# Altium schematic symbol library STM32.SchLib: 15 symbols
Pins are listed as number, name and electrical type; pins without a type are passive.

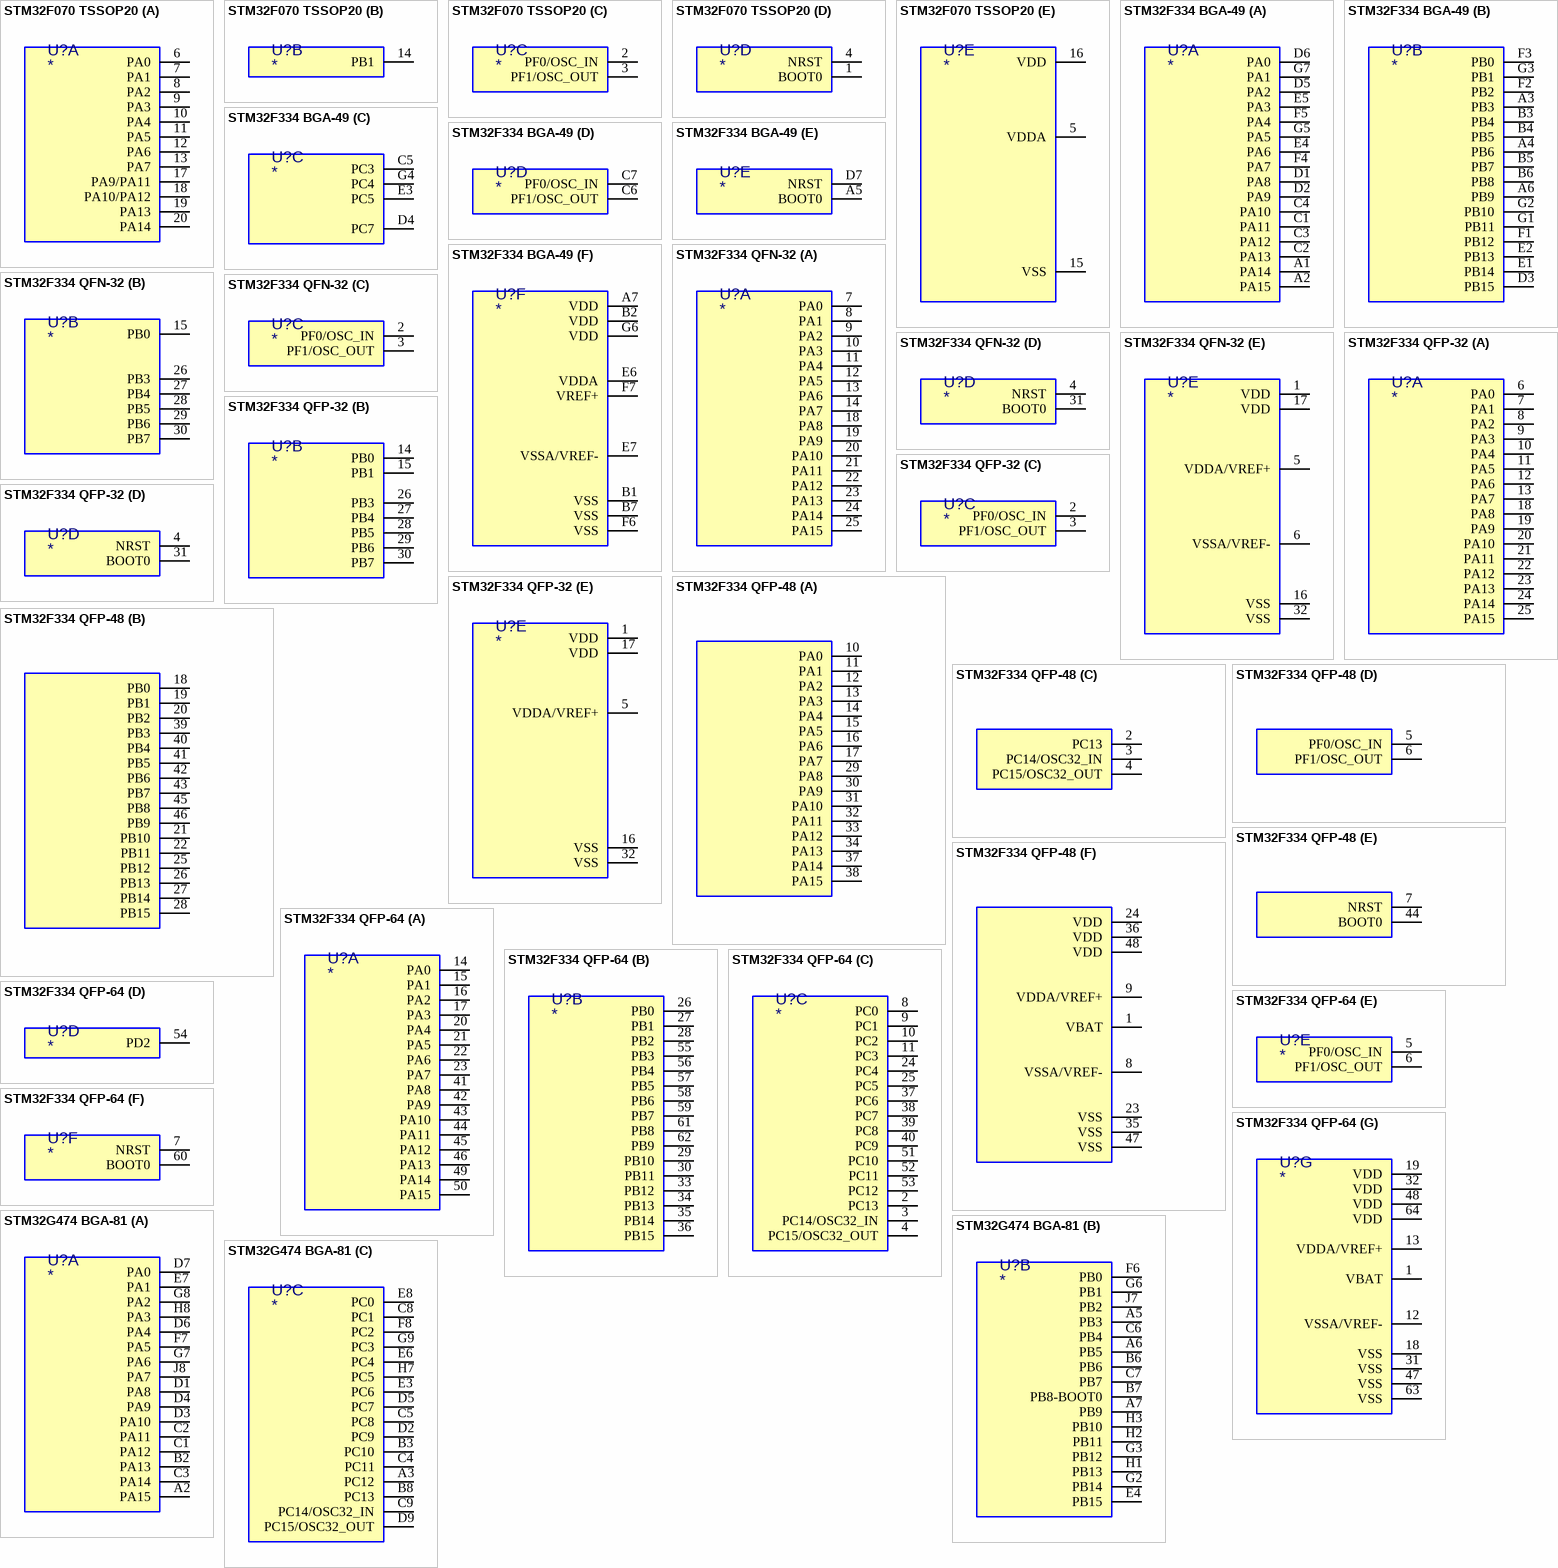
[diagram p0: symbols STM32F070 TSSOP20 to STM32G474 BGA-81]

## STM32F070 TSSOP20
designator U?
part A pins: 6 PA0, 7 PA1, 8 PA2, 9 PA3, 10 PA4, 11 PA5, 12 PA6, 13 PA7, 17 PA9/PA11, 18 PA10/PA12, 19 PA13, 20 PA14
part B pins: 14 PB1
part C pins: 2 PF0/OSC_IN, 3 PF1/OSC_OUT
part D pins: 1 BOOT0, 4 NRST
part E pins: 5 VDDA, 15 VSS, 16 VDD

## STM32F334 BGA-49
designator U?
part A pins: A1 PA14, A2 PA15, C1 PA11, C2 PA13, C3 PA12, C4 PA10, D1 PA8, D2 PA9, D5 PA2, D6 PA0, E4 PA6, E5 PA3, F4 PA7, F5 PA4, G5 PA5, G7 PA1
part B pins: A3 PB3, A4 PB6, A6 PB9, B3 PB4, B4 PB5, B5 PB7, B6 PB8, D3 PB15, E1 PB14, E2 PB13, F1 PB12, F2 PB2, F3 PB0, G1 PB11, G2 PB10, G3 PB1
part C pins: C5 PC3, D4 PC7, E3 PC5, G4 PC4
part D pins: C6 PF1/OSC_OUT, C7 PF0/OSC_IN
part E pins: A5 BOOT0, D7 NRST
part F pins: A7 VDD, B1 VSS, B2 VDD, B7 VSS, E6 VDDA, E7 VSSA/VREF-, F6 VSS, F7 VREF+, G6 VDD

## STM32F334 QFN-32
designator U?
part A pins: 7 PA0, 8 PA1, 9 PA2, 10 PA3, 11 PA4, 12 PA5, 13 PA6, 14 PA7, 18 PA8, 19 PA9, 20 PA10, 21 PA11, 22 PA12, 23 PA13, 24 PA14, 25 PA15
part B pins: 15 PB0, 26 PB3, 27 PB4, 28 PB5, 29 PB6, 30 PB7
part C pins: 2 PF0/OSC_IN, 3 PF1/OSC_OUT
part D pins: 4 NRST, 31 BOOT0
part E pins: 1 VDD, 5 VDDA/VREF+, 6 VSSA/VREF-, 16 VSS, 17 VDD, 32 VSS

## STM32F334 QFP-32
designator U?
part A pins: 6 PA0, 7 PA1, 8 PA2, 9 PA3, 10 PA4, 11 PA5, 12 PA6, 13 PA7, 18 PA8, 19 PA9, 20 PA10, 21 PA11, 22 PA12, 23 PA13, 24 PA14, 25 PA15
part B pins: 14 PB0, 15 PB1, 26 PB3, 27 PB4, 28 PB5, 29 PB6, 30 PB7
part C pins: 2 PF0/OSC_IN, 3 PF1/OSC_OUT
part D pins: 4 NRST, 31 BOOT0
part E pins: 1 VDD, 5 VDDA/VREF+, 16 VSS, 17 VDD, 32 VSS

## STM32F334 QFP-48
designator U?
part A pins: 10 PA0, 11 PA1, 12 PA2, 13 PA3, 14 PA4, 15 PA5, 16 PA6, 17 PA7, 29 PA8, 30 PA9, 31 PA10, 32 PA11, 33 PA12, 34 PA13, 37 PA14, 38 PA15
part B pins: 18 PB0, 19 PB1, 20 PB2, 21 PB10, 22 PB11, 25 PB12, 26 PB13, 27 PB14, 28 PB15, 39 PB3, 40 PB4, 41 PB5, 42 PB6, 43 PB7, 45 PB8, 46 PB9
part C pins: 2 PC13, 3 PC14/OSC32_IN, 4 PC15/OSC32_OUT
part D pins: 5 PF0/OSC_IN, 6 PF1/OSC_OUT
part E pins: 7 NRST, 44 BOOT0
part F pins: 1 VBAT, 8 VSSA/VREF-, 9 VDDA/VREF+, 23 VSS, 24 VDD, 35 VSS, 36 VDD, 47 VSS, 48 VDD

## STM32F334 QFP-64
designator U?
part A pins: 14 PA0, 15 PA1, 16 PA2, 17 PA3, 20 PA4, 21 PA5, 22 PA6, 23 PA7, 41 PA8, 42 PA9, 43 PA10, 44 PA11, 45 PA12, 46 PA13, 49 PA14, 50 PA15
part B pins: 26 PB0, 27 PB1, 28 PB2, 29 PB10, 30 PB11, 33 PB12, 34 PB13, 35 PB14, 36 PB15, 55 PB3, 56 PB4, 57 PB5, 58 PB6, 59 PB7, 61 PB8, 62 PB9
part C pins: 2 PC13, 3 PC14/OSC32_IN, 4 PC15/OSC32_OUT, 8 PC0, 9 PC1, 10 PC2, 11 PC3, 24 PC4, 25 PC5, 37 PC6, 38 PC7, 39 PC8, 40 PC9, 51 PC10, 52 PC11, 53 PC12
part D pins: 54 PD2
part E pins: 5 PF0/OSC_IN, 6 PF1/OSC_OUT
part F pins: 7 NRST, 60 BOOT0
part G pins: 1 VBAT, 12 VSSA/VREF-, 13 VDDA/VREF+, 18 VSS, 19 VDD, 31 VSS, 32 VDD, 47 VSS, 48 VDD, 63 VSS, 64 VDD

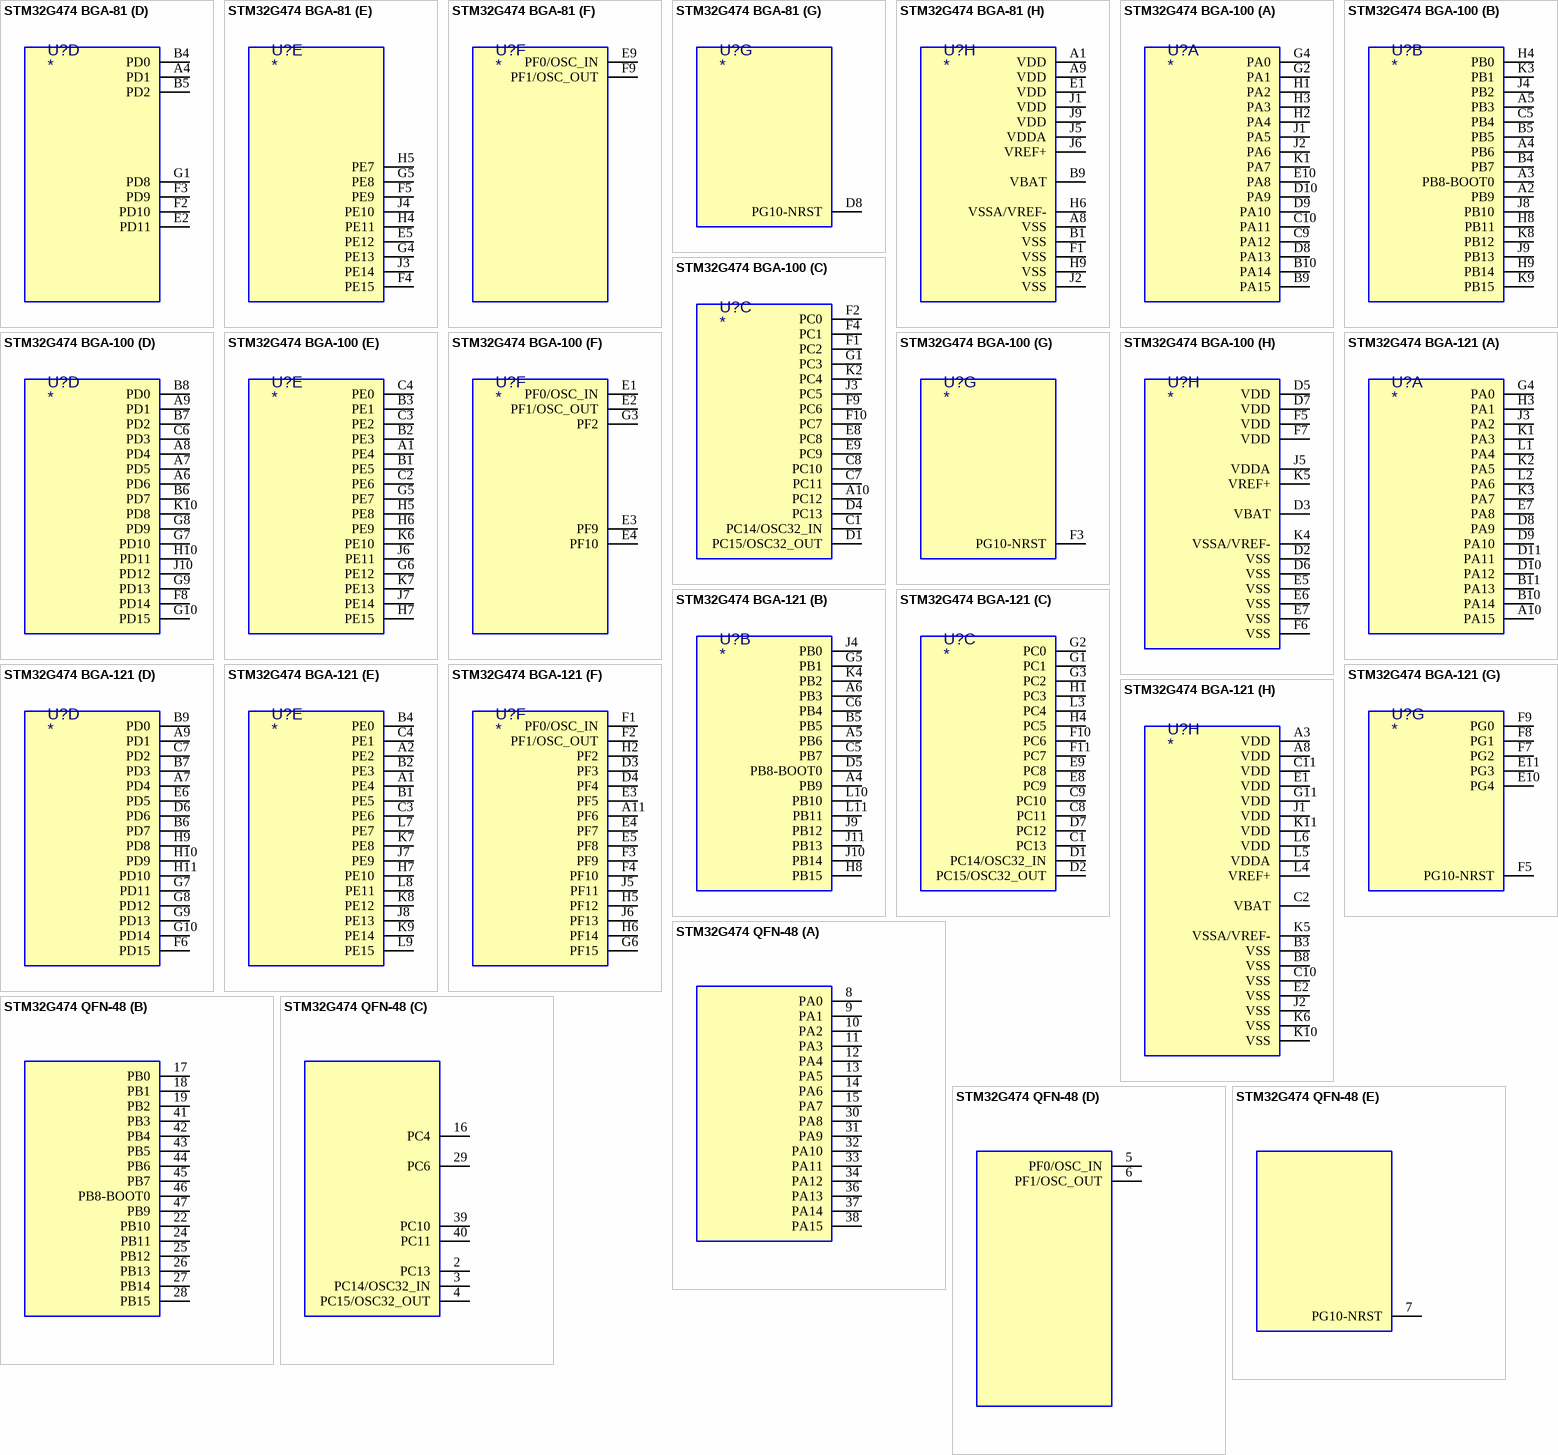
[diagram p1: symbols STM32G474 BGA-81 to STM32G474 QFN-48]

## STM32G474 BGA-81
designator U?
part A pins: A2 PA15, B2 PA13, C1 PA12, C2 PA11, C3 PA14, D1 PA8, D3 PA10, D4 PA9, D6 PA4, D7 PA0, E7 PA1, F7 PA5, G7 PA6, G8 PA2, H8 PA3, J8 PA7
part B pins: A5 PB3, A6 PB5, A7 PB9, B6 PB6, B7 PB8-BOOT0, C6 PB4, C7 PB7, E4 PB15, F6 PB0, G2 PB14, G3 PB12, G6 PB1, H1 PB13, H2 PB11, H3 PB10, J7 PB2
part C pins: A3 PC12, B3 PC10, B8 PC13, C4 PC11, C5 PC8, C8 PC1, C9 PC14/OSC32_IN, D2 PC9, D5 PC7, D9 PC15/OSC32_OUT, E3 PC6, E6 PC4, E8 PC0, F8 PC2, G9 PC3, H7 PC5
part D pins: A4 PD1, B4 PD0, B5 PD2, E2 PD11, F2 PD10, F3 PD9, G1 PD8
part E pins: E5 PE12, F4 PE15, F5 PE9, G4 PE13, G5 PE8, H4 PE11, H5 PE7, J3 PE14, J4 PE10
part F pins: E9 PF0/OSC_IN, F9 PF1/OSC_OUT
part G pins: D8 PG10-NRST
part H pins: A1 VDD, A8 VSS, A9 VDD, B1 VSS, B9 VBAT, E1 VDD, F1 VSS, H6 VSSA/VREF-, H9 VSS, J1 VDD, J2 VSS, J5 VDDA, J6 VREF+, J9 VDD

## STM32G474 BGA-100
designator U?
part A pins: B9 PA15, B10 PA14, C9 PA12, C10 PA11, D8 PA13, D9 PA10, D10 PA9, E10 PA8, G2 PA1, G4 PA0, H1 PA2, H2 PA4, H3 PA3, J1 PA5, J2 PA6, K1 PA7
part B pins: A2 PB9, A3 PB8-BOOT0, A4 PB6, A5 PB3, B4 PB7, B5 PB5, C5 PB4, H4 PB0, H8 PB11, H9 PB14, J4 PB2, J8 PB10, J9 PB13, K3 PB1, K8 PB12, K9 PB15
part C pins: A10 PC12, C1 PC14/OSC32_IN, C7 PC11, C8 PC10, D1 PC15/OSC32_OUT, D4 PC13, E8 PC8, E9 PC9, F1 PC2, F2 PC0, F4 PC1, F9 PC6, F10 PC7, G1 PC3, J3 PC5, K2 PC4
part D pins: A6 PD6, A7 PD5, A8 PD4, A9 PD1, B6 PD7, B7 PD2, B8 PD0, C6 PD3, F8 PD14, G7 PD10, G8 PD9, G9 PD13, G10 PD15, H10 PD11, J10 PD12, K10 PD8
part E pins: A1 PE4, B1 PE5, B2 PE3, B3 PE1, C2 PE6, C3 PE2, C4 PE0, G5 PE7, G6 PE12, H5 PE8, H6 PE9, H7 PE15, J6 PE11, J7 PE14, K6 PE10, K7 PE13
part F pins: E1 PF0/OSC_IN, E2 PF1/OSC_OUT, E3 PF9, E4 PF10, G3 PF2
part G pins: F3 PG10-NRST
part H pins: D2 VSS, D3 VBAT, D5 VDD, D6 VSS, D7 VDD, E5 VSS, E6 VSS, E7 VSS, F5 VDD, F6 VSS, F7 VDD, J5 VDDA, K4 VSSA/VREF-, K5 VREF+

## STM32G474 BGA-121
designator U?
part A pins: A10 PA15, B10 PA14, B11 PA13, D8 PA9, D9 PA10, D10 PA12, D11 PA11, E7 PA8, G4 PA0, H3 PA1, J3 PA2, K1 PA3, K2 PA5, K3 PA7, L1 PA4, L2 PA6
part B pins: A4 PB9, A5 PB6, A6 PB3, B5 PB5, C5 PB7, C6 PB4, D5 PB8-BOOT0, G5 PB1, H8 PB15, J4 PB0, J9 PB12, J10 PB14, J11 PB13, K4 PB2, L10 PB10, L11 PB11
part C pins: C1 PC13, C8 PC11, C9 PC10, D1 PC14/OSC32_IN, D2 PC15/OSC32_OUT, D7 PC12, E8 PC9, E9 PC8, F10 PC6, F11 PC7, G1 PC1, G2 PC0, G3 PC2, H1 PC3, H4 PC5, L3 PC4
part D pins: A7 PD4, A9 PD1, B6 PD7, B7 PD3, B9 PD0, C7 PD2, D6 PD6, E6 PD5, F6 PD15, G7 PD11, G8 PD12, G9 PD13, G10 PD14, H9 PD8, H10 PD9, H11 PD10
part E pins: A1 PE4, A2 PE2, B1 PE5, B2 PE3, B4 PE0, C3 PE6, C4 PE1, H7 PE10, J7 PE9, J8 PE13, K7 PE8, K8 PE12, K9 PE14, L7 PE7, L8 PE11, L9 PE15
part F pins: A11 PF6, D3 PF3, D4 PF4, E3 PF5, E4 PF7, E5 PF8, F1 PF0/OSC_IN, F2 PF1/OSC_OUT, F3 PF9, F4 PF10, G6 PF15, H2 PF2, H5 PF12, H6 PF14, J5 PF11, J6 PF13
part G pins: E10 PG4, E11 PG3, F5 PG10-NRST, F7 PG2, F8 PG1, F9 PG0
part H pins: A3 VDD, A8 VDD, B3 VSS, B8 VSS, C2 VBAT, C10 VSS, C11 VDD, E1 VDD, E2 VSS, G11 VDD, J1 VDD, J2 VSS, K5 VSSA/VREF-, K6 VSS, K10 VSS, K11 VDD, L4 VREF+, L5 VDDA, L6 VDD

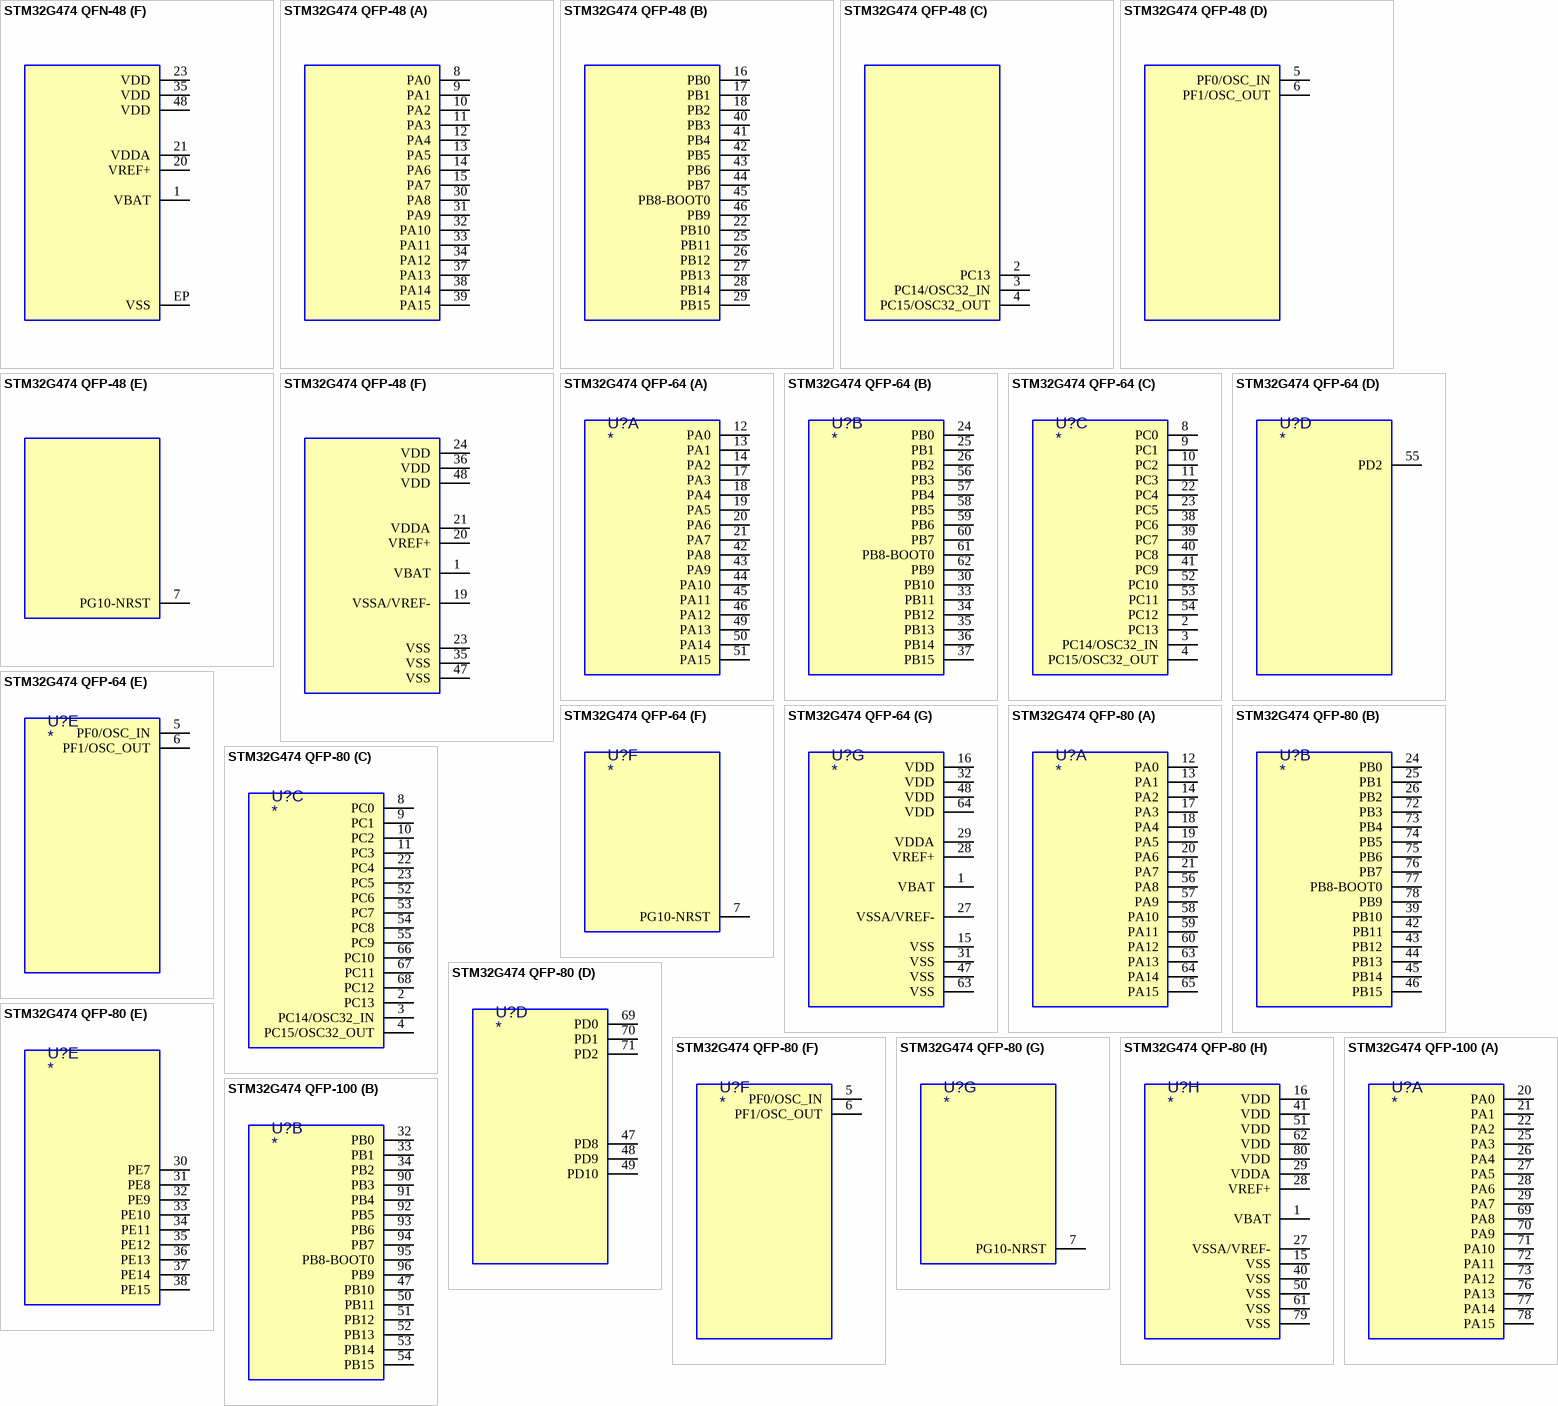
[diagram p2: symbols STM32G474 QFN-48 to STM32G474 QFP-100]

## STM32G474 QFN-48
designator U?
part A pins: 8 PA0, 9 PA1, 10 PA2, 11 PA3, 12 PA4, 13 PA5, 14 PA6, 15 PA7, 30 PA8, 31 PA9, 32 PA10, 33 PA11, 34 PA12, 36 PA13, 37 PA14, 38 PA15
part B pins: 17 PB0, 18 PB1, 19 PB2, 22 PB10, 24 PB11, 25 PB12, 26 PB13, 27 PB14, 28 PB15, 41 PB3, 42 PB4, 43 PB5, 44 PB6, 45 PB7, 46 PB8-BOOT0, 47 PB9
part C pins: 2 PC13, 3 PC14/OSC32_IN, 4 PC15/OSC32_OUT, 16 PC4, 29 PC6, 39 PC10, 40 PC11
part D pins: 5 PF0/OSC_IN, 6 PF1/OSC_OUT
part E pins: 7 PG10-NRST
part F pins: 1 VBAT, 20 VREF+, 21 VDDA, 23 VDD, 35 VDD, 48 VDD, EP VSS

## STM32G474 QFP-48
designator U?
part A pins: 8 PA0, 9 PA1, 10 PA2, 11 PA3, 12 PA4, 13 PA5, 14 PA6, 15 PA7, 30 PA8, 31 PA9, 32 PA10, 33 PA11, 34 PA12, 37 PA13, 38 PA14, 39 PA15
part B pins: 16 PB0, 17 PB1, 18 PB2, 22 PB10, 25 PB11, 26 PB12, 27 PB13, 28 PB14, 29 PB15, 40 PB3, 41 PB4, 42 PB5, 43 PB6, 44 PB7, 45 PB8-BOOT0, 46 PB9
part C pins: 2 PC13, 3 PC14/OSC32_IN, 4 PC15/OSC32_OUT
part D pins: 5 PF0/OSC_IN, 6 PF1/OSC_OUT
part E pins: 7 PG10-NRST
part F pins: 1 VBAT, 19 VSSA/VREF-, 20 VREF+, 21 VDDA, 23 VSS, 24 VDD, 35 VSS, 36 VDD, 47 VSS, 48 VDD

## STM32G474 QFP-64
designator U?
part A pins: 12 PA0, 13 PA1, 14 PA2, 17 PA3, 18 PA4, 19 PA5, 20 PA6, 21 PA7, 42 PA8, 43 PA9, 44 PA10, 45 PA11, 46 PA12, 49 PA13, 50 PA14, 51 PA15
part B pins: 24 PB0, 25 PB1, 26 PB2, 30 PB10, 33 PB11, 34 PB12, 35 PB13, 36 PB14, 37 PB15, 56 PB3, 57 PB4, 58 PB5, 59 PB6, 60 PB7, 61 PB8-BOOT0, 62 PB9
part C pins: 2 PC13, 3 PC14/OSC32_IN, 4 PC15/OSC32_OUT, 8 PC0, 9 PC1, 10 PC2, 11 PC3, 22 PC4, 23 PC5, 38 PC6, 39 PC7, 40 PC8, 41 PC9, 52 PC10, 53 PC11, 54 PC12
part D pins: 55 PD2
part E pins: 5 PF0/OSC_IN, 6 PF1/OSC_OUT
part F pins: 7 PG10-NRST
part G pins: 1 VBAT, 15 VSS, 16 VDD, 27 VSSA/VREF-, 28 VREF+, 29 VDDA, 31 VSS, 32 VDD, 47 VSS, 48 VDD, 63 VSS, 64 VDD

## STM32G474 QFP-80
designator U?
part A pins: 12 PA0, 13 PA1, 14 PA2, 17 PA3, 18 PA4, 19 PA5, 20 PA6, 21 PA7, 56 PA8, 57 PA9, 58 PA10, 59 PA11, 60 PA12, 63 PA13, 64 PA14, 65 PA15
part B pins: 24 PB0, 25 PB1, 26 PB2, 39 PB10, 42 PB11, 43 PB12, 44 PB13, 45 PB14, 46 PB15, 72 PB3, 73 PB4, 74 PB5, 75 PB6, 76 PB7, 77 PB8-BOOT0, 78 PB9
part C pins: 2 PC13, 3 PC14/OSC32_IN, 4 PC15/OSC32_OUT, 8 PC0, 9 PC1, 10 PC2, 11 PC3, 22 PC4, 23 PC5, 52 PC6, 53 PC7, 54 PC8, 55 PC9, 66 PC10, 67 PC11, 68 PC12
part D pins: 47 PD8, 48 PD9, 49 PD10, 69 PD0, 70 PD1, 71 PD2
part E pins: 30 PE7, 31 PE8, 32 PE9, 33 PE10, 34 PE11, 35 PE12, 36 PE13, 37 PE14, 38 PE15
part F pins: 5 PF0/OSC_IN, 6 PF1/OSC_OUT
part G pins: 7 PG10-NRST
part H pins: 1 VBAT, 15 VSS, 16 VDD, 27 VSSA/VREF-, 28 VREF+, 29 VDDA, 40 VSS, 41 VDD, 50 VSS, 51 VDD, 61 VSS, 62 VDD, 79 VSS, 80 VDD

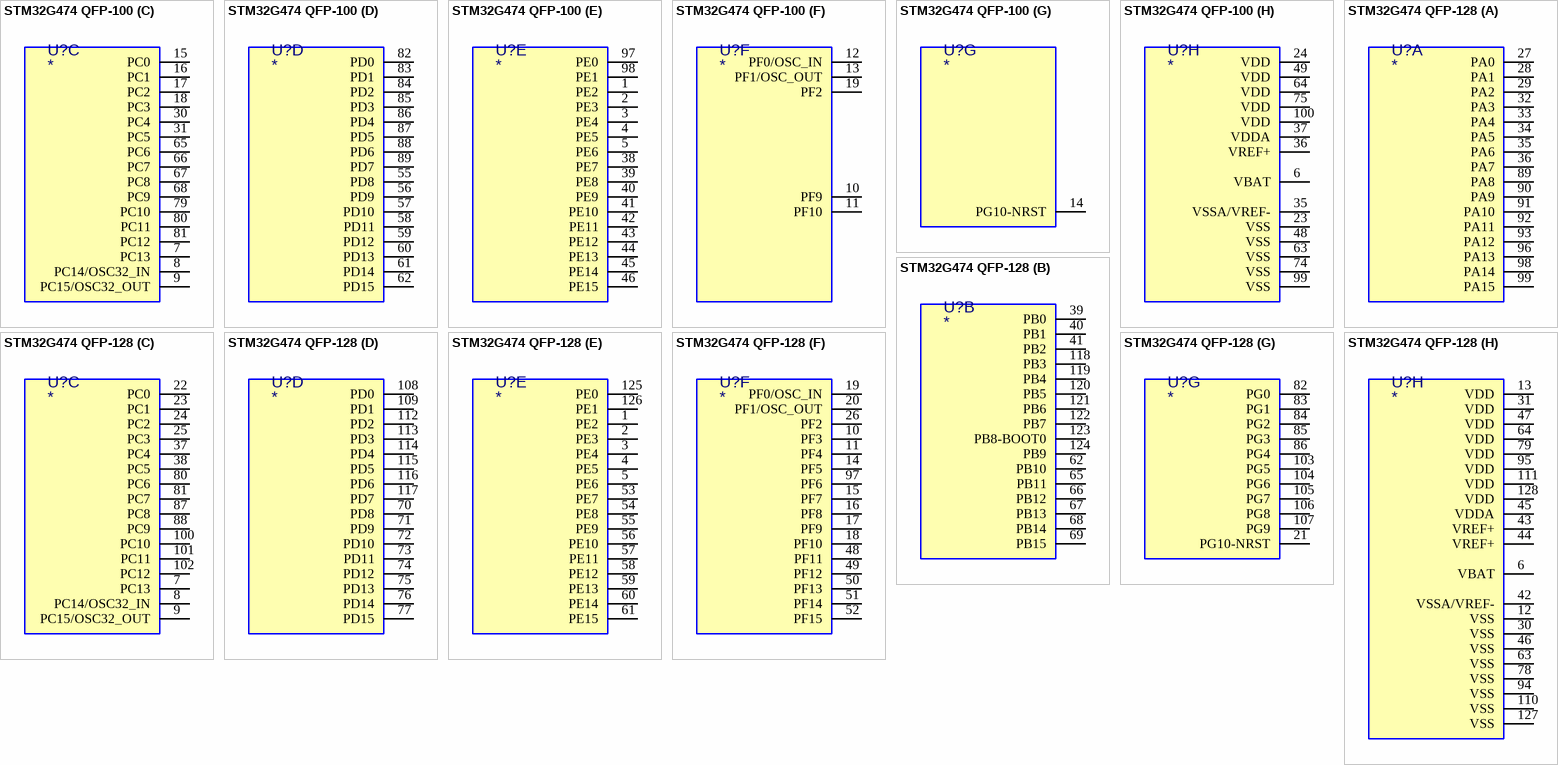
[diagram p3: symbols STM32G474 QFP-100 to STM32G474 QFP-128]

## STM32G474 QFP-100
designator U?
part A pins: 20 PA0, 21 PA1, 22 PA2, 25 PA3, 26 PA4, 27 PA5, 28 PA6, 29 PA7, 69 PA8, 70 PA9, 71 PA10, 72 PA11, 73 PA12, 76 PA13, 77 PA14, 78 PA15
part B pins: 32 PB0, 33 PB1, 34 PB2, 47 PB10, 50 PB11, 51 PB12, 52 PB13, 53 PB14, 54 PB15, 90 PB3, 91 PB4, 92 PB5, 93 PB6, 94 PB7, 95 PB8-BOOT0, 96 PB9
part C pins: 7 PC13, 8 PC14/OSC32_IN, 9 PC15/OSC32_OUT, 15 PC0, 16 PC1, 17 PC2, 18 PC3, 30 PC4, 31 PC5, 65 PC6, 66 PC7, 67 PC8, 68 PC9, 79 PC10, 80 PC11, 81 PC12
part D pins: 55 PD8, 56 PD9, 57 PD10, 58 PD11, 59 PD12, 60 PD13, 61 PD14, 62 PD15, 82 PD0, 83 PD1, 84 PD2, 85 PD3, 86 PD4, 87 PD5, 88 PD6, 89 PD7
part E pins: 1 PE2, 2 PE3, 3 PE4, 4 PE5, 5 PE6, 38 PE7, 39 PE8, 40 PE9, 41 PE10, 42 PE11, 43 PE12, 44 PE13, 45 PE14, 46 PE15, 97 PE0, 98 PE1
part F pins: 10 PF9, 11 PF10, 12 PF0/OSC_IN, 13 PF1/OSC_OUT, 19 PF2
part G pins: 14 PG10-NRST
part H pins: 6 VBAT, 23 VSS, 24 VDD, 35 VSSA/VREF-, 36 VREF+, 37 VDDA, 48 VSS, 49 VDD, 63 VSS, 64 VDD, 74 VSS, 75 VDD, 99 VSS, 100 VDD

## STM32G474 QFP-128
designator U?
part A pins: 27 PA0, 28 PA1, 29 PA2, 32 PA3, 33 PA4, 34 PA5, 35 PA6, 36 PA7, 89 PA8, 90 PA9, 91 PA10, 92 PA11, 93 PA12, 96 PA13, 98 PA14, 99 PA15
part B pins: 39 PB0, 40 PB1, 41 PB2, 62 PB10, 65 PB11, 66 PB12, 67 PB13, 68 PB14, 69 PB15, 118 PB3, 119 PB4, 120 PB5, 121 PB6, 122 PB7, 123 PB8-BOOT0, 124 PB9
part C pins: 7 PC13, 8 PC14/OSC32_IN, 9 PC15/OSC32_OUT, 22 PC0, 23 PC1, 24 PC2, 25 PC3, 37 PC4, 38 PC5, 80 PC6, 81 PC7, 87 PC8, 88 PC9, 100 PC10, 101 PC11, 102 PC12
part D pins: 70 PD8, 71 PD9, 72 PD10, 73 PD11, 74 PD12, 75 PD13, 76 PD14, 77 PD15, 108 PD0, 109 PD1, 112 PD2, 113 PD3, 114 PD4, 115 PD5, 116 PD6, 117 PD7
part E pins: 1 PE2, 2 PE3, 3 PE4, 4 PE5, 5 PE6, 53 PE7, 54 PE8, 55 PE9, 56 PE10, 57 PE11, 58 PE12, 59 PE13, 60 PE14, 61 PE15, 125 PE0, 126 PE1
part F pins: 10 PF3, 11 PF4, 14 PF5, 15 PF7, 16 PF8, 17 PF9, 18 PF10, 19 PF0/OSC_IN, 20 PF1/OSC_OUT, 26 PF2, 48 PF11, 49 PF12, 50 PF13, 51 PF14, 52 PF15, 97 PF6
part G pins: 21 PG10-NRST, 82 PG0, 83 PG1, 84 PG2, 85 PG3, 86 PG4, 103 PG5, 104 PG6, 105 PG7, 106 PG8, 107 PG9
part H pins: 6 VBAT, 12 VSS, 13 VDD, 30 VSS, 31 VDD, 42 VSSA/VREF-, 43 VREF+, 44 VREF+, 45 VDDA, 46 VSS, 47 VDD, 63 VSS, 64 VDD, 78 VSS, 79 VDD, 94 VSS, 95 VDD, 110 VSS, 111 VDD, 127 VSS, 128 VDD